# EAGLE library part USB-C (library SobieskiSat2)
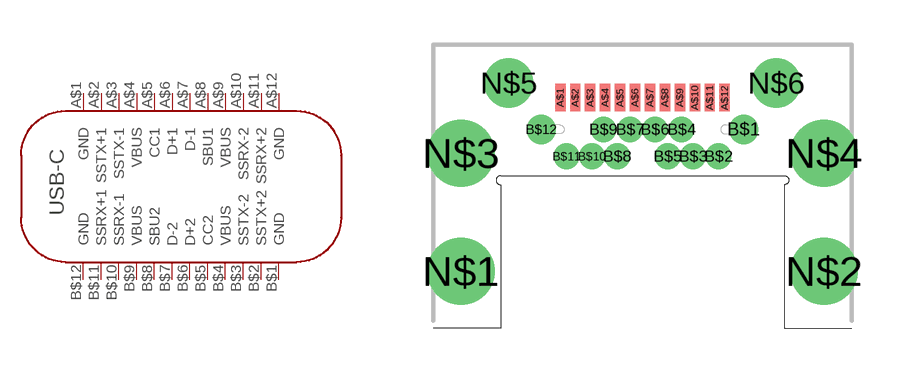
[diagram p10: symbol with the pads of USB-C; footprint USB-C]

Designator prefix -

## USB-C  [USB-C]
A$1  GND
A$2  SSTX+1
A$3  SSTX-1
A$4  VBUS
A$5  CC1
A$6  D+1
A$7  D-1
A$8  SBU1
A$9  VBUS
A$10  SSRX-2
A$11  SSRX+2
A$12  GND
B$1  GND
B$2  SSTX+2
B$3  SSTX-2
B$4  VBUS
B$5  CC2
B$6  D+2
B$7  D-2
B$8  SBU2
B$9  VBUS
B$10  SSRX-1
B$11  SSRX+1
B$12  GND

## Footprint USB-C (pad centres in mm)
smd 0.35 x 0.92: A$1 -2.75,1.96; A$2 -2.25,1.96; A$3 -1.75,1.96; A$4 -1.25,1.96; A$5 -0.75,1.96; A$6 -0.25,1.96; A$7 0.25,1.96; A$8 0.75,1.96; A$9 1.25,1.96; A$10 1.75,1.96; A$11 2.25,1.96; A$12 2.75,1.96
drill 0.47 pad 0.8: B$1 3.385,0.9; B$12 -3.385,0.9
drill 0.35 pad 0.7: B$2 2.545,0; B$3 1.695,0; B$4 1.31,0.9; B$5 0.845,0; B$6 0.415,0.9; B$7 -0.415,0.9; B$8 -0.845,0; B$9 -1.31,0.9; B$10 -1.695,0; B$11 -2.545,0
drill 1.5 pad 2: N$1 -6.075,-3.85; N$2 6.075,-3.85; N$3 -6.075,0.1; N$4 6.075,0.1
drill 1.1: N$5 -4.475,2.45; N$6 4.475,2.45